# Altium footprint library BGA8C80P3X3_290X230X100.PcbLib: 1 footprints
Each footprint in its own frame and in the unit in brackets; x right, y up, seen from the top. Pads: shape width x height; smd on the part's side, far side on the other; paste and mask are expansions set on the pad; w line width, h text height; cw(c..) or ccw(c..) is an arc to the next point about the centre after c.
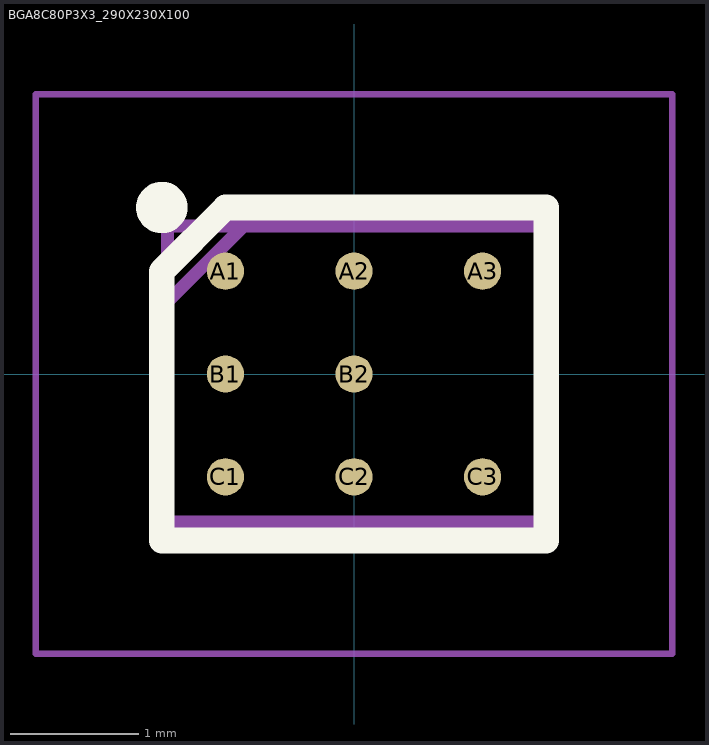
[diagram p0: the footprint, top view; thin cyan lines are the x and y axes]

## BGA8C80P3X3_290X230X100 [mm]
pads (8):
  round 0.29 smd: A1(-1,0.8) A2(0,0.8) A3(1,0.8) B1(-1,0) B2(0,0) C1(-1,-0.8) C2(0,-0.8) C3(1,-0.8)
Top Overlay:
  circle w0.2: c-1.495,1.295 r0.1
  lines w0.2: -1.495,-1.295 1.495,-1.295 1.495,1.295 -1,1.295 -1.495,0.8 -1.495,-1.295
Mechanical 15:
  lines w0.1: -1.45,0.562 -0.862,1.15 ; -1.45,-1.15 1.45,-1.15 1.45,1.15 -1.45,1.15 -1.45,-1.15
Mechanical 20:
  lines w0.05: -2.475,-2.175 2.475,-2.175 2.475,2.175 -2.475,2.175 -2.475,-2.175